# EAGLE library part ALPS_RK09712 (library SKAARHOJ)
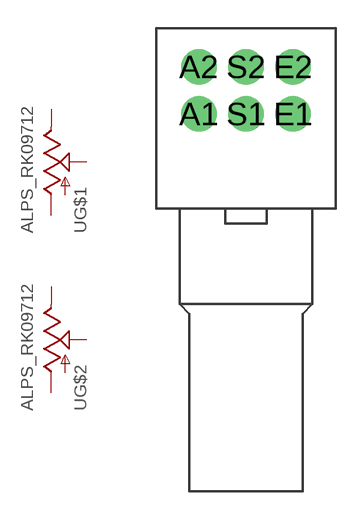
[diagram p86: symbol with the pads of ALPS_RK09712XX; footprint ALPS_RK09712XX]

Designator prefix -; gates G$1=POT G$2=POT

## ALPS_RK09712  [ALPS_RK09712XX]
A1  G$1:A  pas
A2  G$2:A  pas
E1  G$1:E  pas
E2  G$2:E  pas
S1  G$1:S  pas
S2  G$2:S  pas

## Footprint ALPS_RK09712XX (pad centres in mm)
drill 1 pad 1.88: A1 -2.5,5; A2 -2.5,7.5; E1 2.5,5; E2 2.5,7.5; S1 0,5; S2 0,7.5